# Altium schematic symbol library ISSI.SchLib: 1 symbol
Pins are listed as number, name and electrical type; pins without a type are passive.

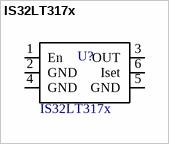
[diagram p0: symbol IS32LT317x]

## IS32LT317x
designator U?, comment Part Number: IS32LT317x  (hidden comment: 10-TO-200MA CONSTANT-CURRENT LED DRIVER)
Manufacturer: Lumissil Microsystems; Price 1: 0.52; Price 100: 0.35; Price 1000: 0.23
footprint SOT23-6BL (SOT23, 6-Leads, Body 3,1x3,2mm (max), Pitch 0,95mm, IPC Medium Density)
pins: 1 En, 2 GND, 3 OUT, 4 GND, 5 GND, 6 Iset